# EAGLE library part MP2359DJ-LF-Z (library MP2359DJ-LF-Z)
Voltage Regulators - Switching Regulators 1A 24V 1.4MHz Non-sync Buck Source: Datasheet <https://datasheet.datasheetarchive.com/originals/distributors/Datasheets_SAMA/89d986a89c59d1844ef77b6f65b8a4d2.pdf>
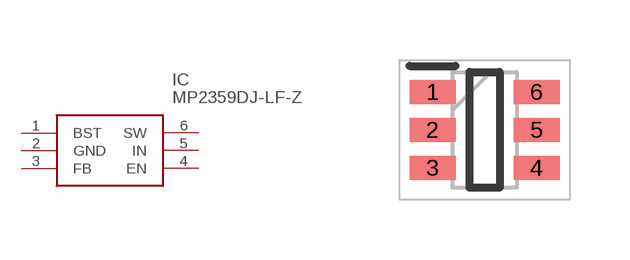
[diagram p0: symbol with the pads of SOT95P280X100-6N; footprint SOT95P280X100-6N]

Designator prefix IC

## MP2359DJ-LF-Z (Description: Voltage Regulators - Switching Regulators 1A 24V 1.4MHz Non-sync Buck; Height: 1mm; Manufacturer_Name: Monolithic Power Systems (MPS); Manufacturer_Part_Number: MP2359DJ-LF-Z; Mouser_Part_Number: 946-MP2359DJLFZ; Mouser_Price-Stock: https://www.mouser.co.uk/ProductDetail/Monolithic-Power-Systems-MPS/MP2359DJ-LF-Z?qs=rC7bBWoQAAkgAaURxgQSyA%3D%3D)  [SOT95P280X100-6N]
1  BST
2  GND
3  FB
4  EN
5  IN
6  SW

## Footprint SOT95P280X100-6N (pad centres in mm)
TSOT23-63
smd 1.15 x 0.6: 1 -1.3,0.95; 2 -1.3,0; 3 -1.3,-0.95; 4 1.3,-0.95; 5 1.3,0; 6 1.3,0.95